# Altium footprint library XIAO-RP2350.PcbLib: 1 footprints
Each footprint in its own frame and in the unit in brackets; x right, y up, seen from the top. Pads: shape width x height; smd on the part's side, far side on the other; paste and mask are expansions set on the pad; w line width, h text height; cw(c..) or ccw(c..) is an arc to the next point about the centre after c.
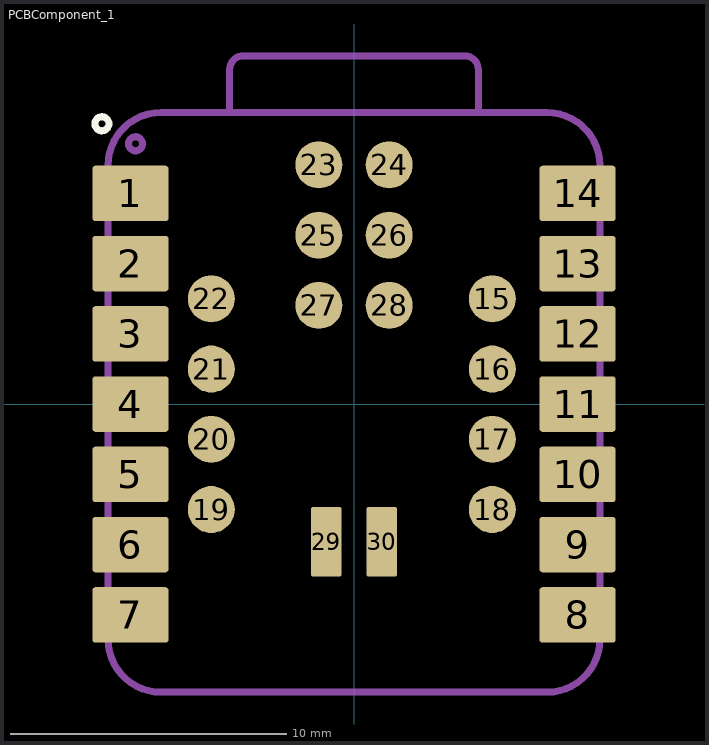
[diagram p0: the footprint, top view; thin cyan lines are the x and y axes]

## PCBComponent_1 [mm]
pads (30):
  rrect10% 2.75x2 smd: 1(-8.083,7.62) 2(-8.083,5.08) 3(-8.083,2.54) 4(-8.083,0) 5(-8.083,-2.54) 6(-8.083,-5.08) 7(-8.083,-7.62) 8(8.083,-7.62) 9(8.083,-5.08) 10(8.083,-2.54) 11(8.083,0) 12(8.083,2.54) 13(8.083,5.08) 14(8.083,7.62)
  round 1.7 smd: 15(5.001,3.81) 16(5.001,1.27) 17(5.001,-1.27) 18(5.001,-3.81) 19(-5.159,-3.81) 20(-5.159,-1.27) 21(-5.159,1.27) 22(-5.159,3.81) 23(-1.27,8.65) 24(1.27,8.65) 25(-1.27,6.11) 26(1.27,6.11) 27(-1.27,3.57) 28(1.27,3.57)
  rrect10% 1.1x2.5 smd: 29(-1,-4.975) 30(1,-4.975)
Top Overlay:
  circle w0.254: c-9.116,10.137 r0.254
Mechanical 15:
  circle w0.254: c-7.899,9.414 r0.254
  lines w0.254: -8.89,8.636 -8.89,-8.509 ccw(c-6.985,-8.509) -6.985,-10.414 6.985,-10.414 ccw(c6.985,-8.509) 8.89,-8.509 8.89,8.636 ccw(c6.985,8.636) 6.985,10.541 -6.985,10.541 ; -8.89,8.64 cw(c-6.985,8.64) -6.985,10.545 ; -4.498,10.553 -4.497,12.094 cw(c-3.997,12.094) -3.997,12.594 3.998,12.594 cw(c3.998,12.094) 4.498,12.094 4.499,10.55
3D body "XIAO RP2350 v3.step": height 4.71, standoff 0.25, extent -8.876,-10.423 8.904,12.618